# Altium integrated library Altium Database Library V2.IntLib: 629 symbols (part 15 of 28)

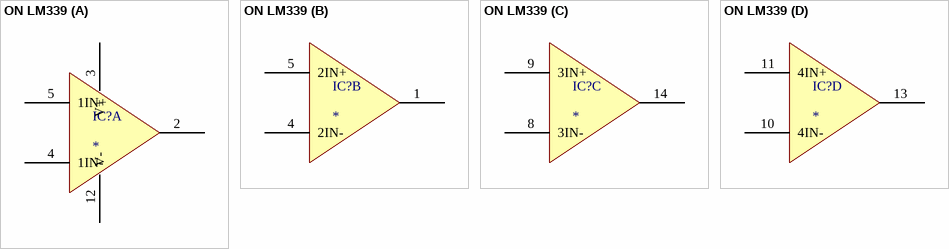
[diagram p322: symbol ON LM339]

## ON LM339
designator IC?
part A pins: 2 1OUT, 3 V+ (power), 4 1IN-, 5 1IN+, 12 V- (power)
part B pins: 1 2OUT, 4 2IN-, 5 2IN+
part C pins: 8 3IN-, 9 3IN+, 14 3OUT
part D pins: 10 4IN-, 11 4IN+, 13 4OUT


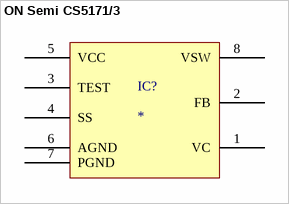
[diagram p323: symbol ON Semi CS5171/3]

## ON Semi CS5171/3
designator IC?
pins: 1 VC, 2 FB, 3 TEST, 4 SS, 5 VCC, 6 AGND, 7 PGND, 8 VSW


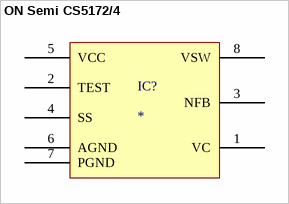
[diagram p324: symbol ON Semi CS5172/4]

## ON Semi CS5172/4
designator IC?
pins: 1 VC, 2 TEST, 3 NFB, 4 SS, 5 VCC, 6 AGND, 7 PGND, 8 VSW


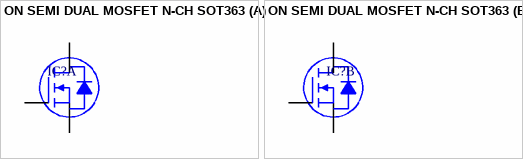
[diagram p325: symbol ON SEMI DUAL MOSFET N-CH SOT363]

## ON SEMI DUAL MOSFET N-CH SOT363
designator IC?
part A pins: 1 S1, 2 G1, 6 D1
part B pins: 3 D2, 4 S2, 5 G2


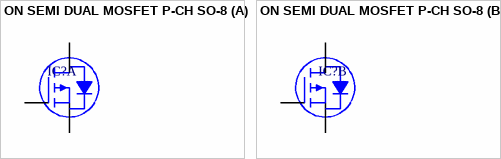
[diagram p326: symbol ON SEMI DUAL MOSFET P-CH SO-8]

## ON SEMI DUAL MOSFET P-CH SO-8
designator IC?
part A pins: 1 S1, 2 G1, 7 D1, 8 D1
part B pins: 3 S2, 4 G2, 5 D2, 6 D2


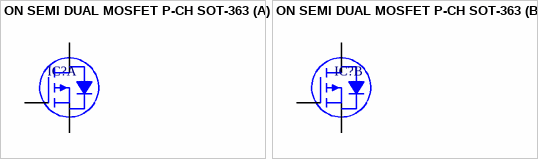
[diagram p327: symbol ON SEMI DUAL MOSFET P-CH SOT-363]

## ON SEMI DUAL MOSFET P-CH SOT-363
designator IC?
part A pins: 1 S1, 2 G1, 6 D1
part B pins: 3 D2, 4 S2, 5 G2


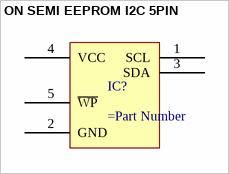
[diagram p328: symbol ON SEMI EEPROM I2C 5PIN]

## ON SEMI EEPROM I2C 5PIN
designator IC?
pins: 1 SCL, 2 GND, 3 SDA, 4 VCC, 5 ~{WP}


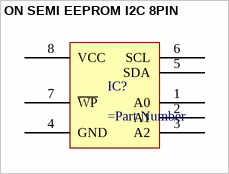
[diagram p329: symbol ON SEMI EEPROM I2C 8PIN]

## ON SEMI EEPROM I2C 8PIN
designator IC?
pins: 1 A0, 2 A1, 3 A2, 4 GND, 5 SDA, 6 SCL, 7 ~{WP}, 8 VCC


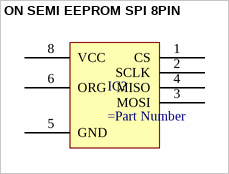
[diagram p330: symbol ON SEMI EEPROM SPI 8PIN]

## ON SEMI EEPROM SPI 8PIN
designator IC?
pins: 1 CS, 2 SCLK, 3 MOSI, 4 MISO, 5 GND, 6 ORG, 8 VCC


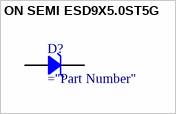
[diagram p331: symbol ON SEMI ESD9X5.0ST5G]

## ON SEMI ESD9X5.0ST5G
designator D?
Rectifier Diode
pins: 1 A, 2 K


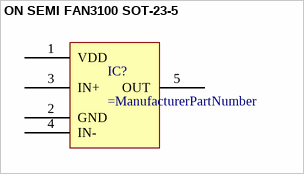
[diagram p332: symbol ON SEMI FAN3100 SOT-23-5]

## ON SEMI FAN3100 SOT-23-5
designator IC?
pins: 1 VDD, 2 GND, 3 IN+, 4 IN-, 5 OUT


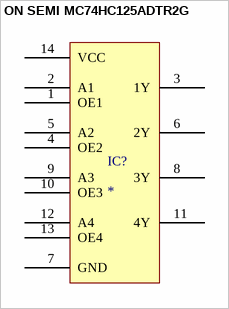
[diagram p333: symbol ON SEMI MC74HC125ADTR2G]

## ON SEMI MC74HC125ADTR2G
designator IC?
pins: 1 OE1, 2 A1, 3 1Y, 4 OE2, 5 A2, 6 2Y, 7 GND, 8 3Y, 9 A3, 10 OE3, 11 4Y, 12 A4, 13 OE4, 14 VCC


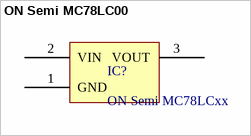
[diagram p334: symbol ON Semi MC78LC00]

## ON Semi MC78LC00
designator IC?, comment ON Semi MC78LCxx
Micropower Voltage  Regulator
pins: 1 GND, 2 VIN, 3 VOUT


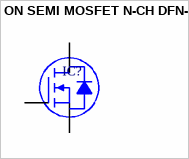
[diagram p335: symbol ON SEMI MOSFET N-CH DFN-5]

## ON SEMI MOSFET N-CH DFN-5
designator IC?
pins: D, G, S


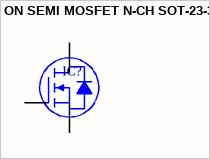
[diagram p336: symbol ON SEMI MOSFET N-CH SOT-23-3]

## ON SEMI MOSFET N-CH SOT-23-3
designator IC?
pins: 1 G, 2 S, 3 D


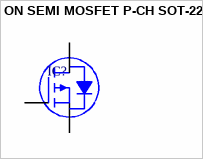
[diagram p337: symbol ON SEMI MOSFET P-CH SOT-223]

## ON SEMI MOSFET P-CH SOT-223
designator IC?
pins: 1 G, 2 D, 3 S, 4 D


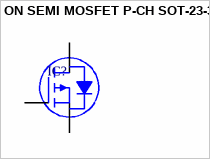
[diagram p338: symbol ON SEMI MOSFET P-CH SOT-23-3]

## ON SEMI MOSFET P-CH SOT-23-3
designator IC?
pins: 1 G, 2 S, 3 D


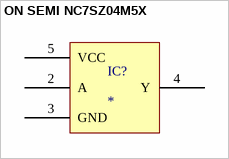
[diagram p339: symbol ON SEMI NC7SZ04M5X]

## ON SEMI NC7SZ04M5X
designator IC?
pins: 2 A, 3 GND, 4 Y, 5 VCC


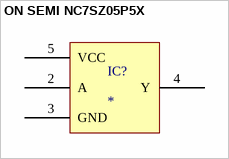
[diagram p340: symbol ON SEMI NC7SZ05P5X]

## ON SEMI NC7SZ05P5X
designator IC?
pins: 2 A, 3 GND, 4 Y, 5 VCC


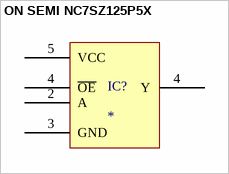
[diagram p341: symbol ON SEMI NC7SZ125P5X]

## ON SEMI NC7SZ125P5X
designator IC?
pins: 2 A, 3 GND, 4 Y, 4 ~{OE}, 5 VCC


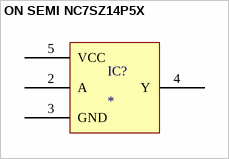
[diagram p342: symbol ON SEMI NC7SZ14P5X]

## ON SEMI NC7SZ14P5X
designator IC?
pins: 2 A, 3 GND, 4 Y, 5 VCC


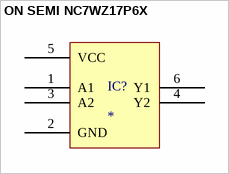
[diagram p343: symbol ON SEMI NC7WZ17P6X]

## ON SEMI NC7WZ17P6X
designator IC?
pins: 1 A1, 2 GND, 3 A2, 4 Y2, 5 VCC, 6 Y1


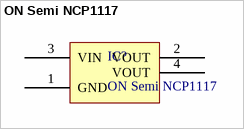
[diagram p344: symbol ON Semi NCP1117]

## ON Semi NCP1117
designator IC?
1.0A Low-Dropout Positive Fixed and Adjustable Voltage Regulators
pins: 1 GND, 2 VOUT, 3 VIN, 4 VOUT
